# Altium footprint library Hello.PcbLib: 234 footprints (part 13 of 15)
Each footprint in its own frame and in the unit in brackets; x right, y up, seen from the top. Pads: shape width x height; smd on the part's side, far side on the other; paste and mask are expansions set on the pad; w line width, h text height; cw(c..) or ccw(c..) is an arc to the next point about the centre after c.
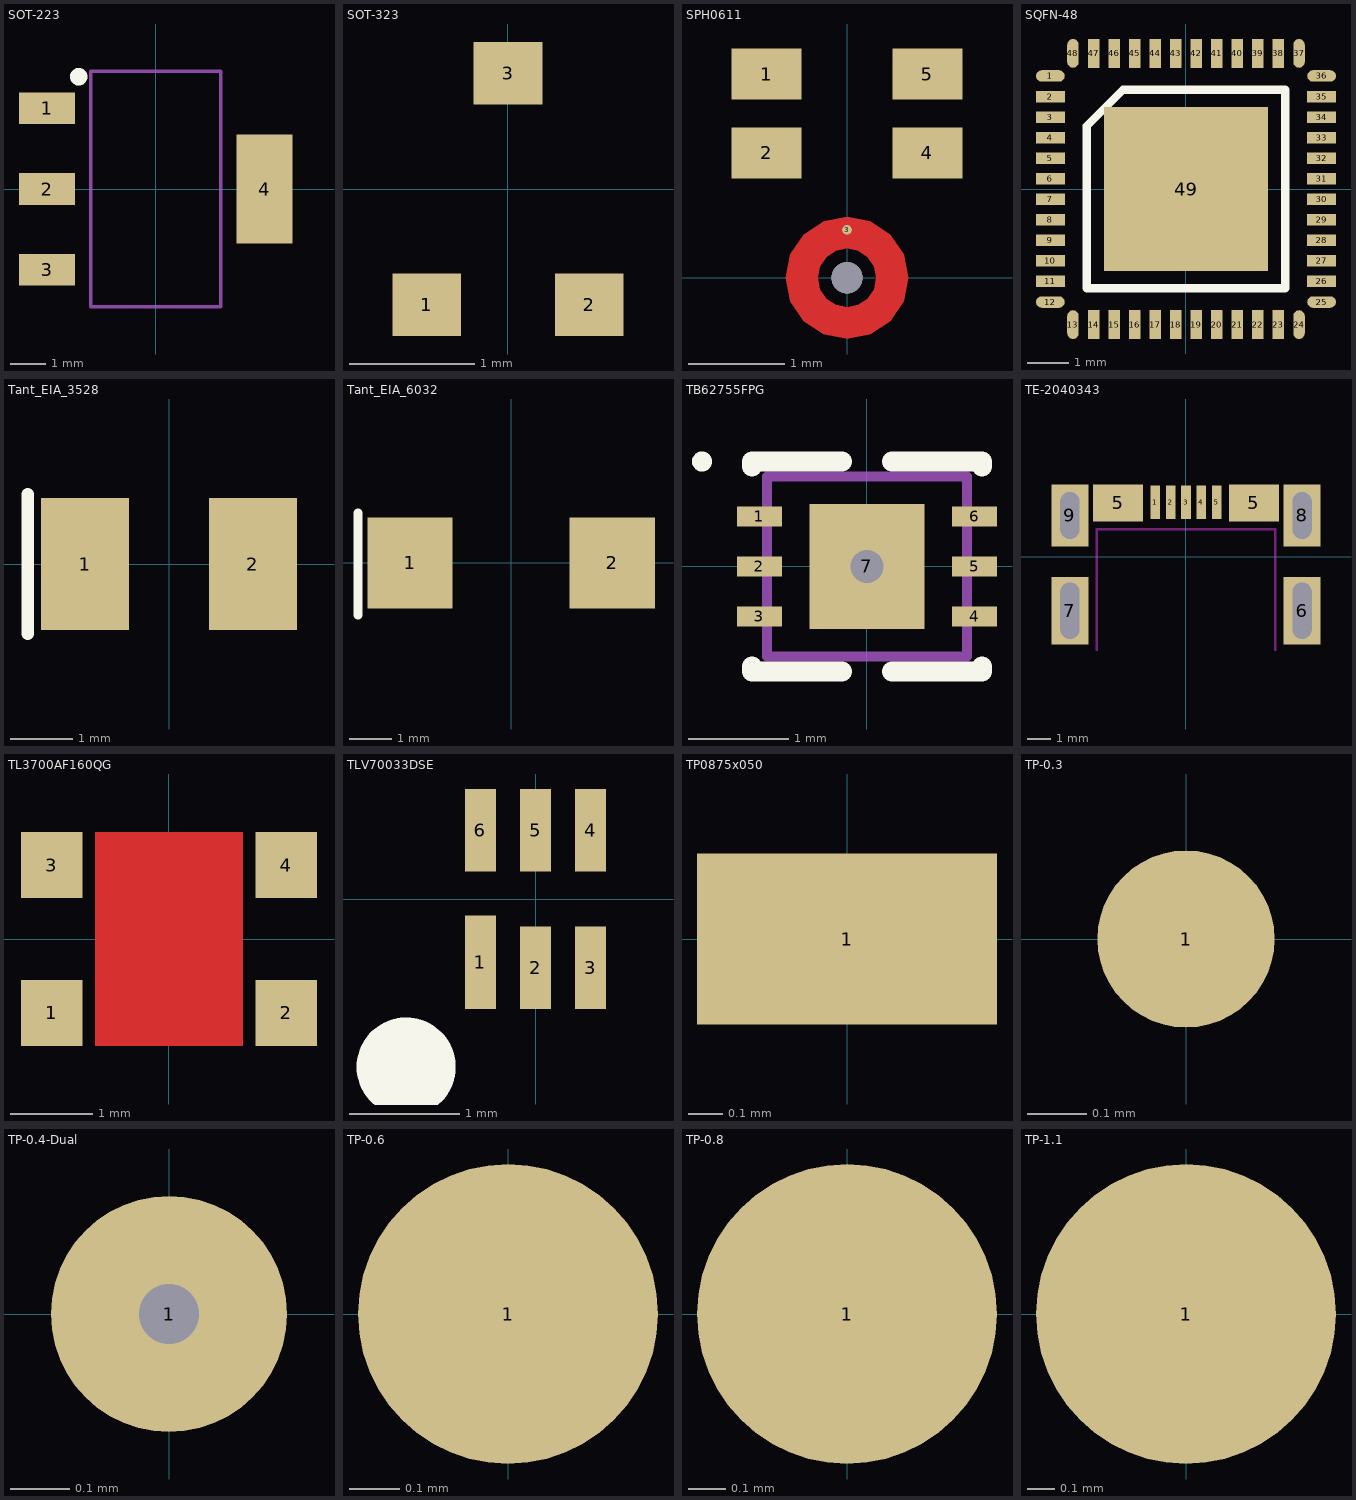
[diagram p12: the footprints below, top view; thin cyan lines are the x and y axes]

## SOT-223 [mm] "SOT223, 4-Leads, Body 6.50x7.00mm (avg), Pitch 2.30mm, IPC High Density"
height 1.8
pads (4):
  rect 1.6x0.9 smd: 1(-3.1,2.3) 2(-3.1,0) 3(-3.1,-2.3)
  rect 1.6x3.1 smd: 4(3.1,0)
Top Overlay:
  circle w0.25: c-2.2,3.2 r0.125
Mechanical 13:
  lines w0.1: -1.85,-3.35 1.85,-3.35 1.85,3.35 -1.85,3.35 -1.85,-3.35
3D body: height 1.8, standoff 0.02, extent -1.85,-3.35 1.85,3.35

## SOT-323 [mm]
pads (3):
  rect 0.55x0.5 smd paste-0.05: 1(-0.65,-0.925) 2(0.65,-0.925) 3(0,0.925)
3D body: height 1.1, standoff 0.1, extent -0.787,-0.937 0.788,0.838

## SPH0611 [mm] "Knowles SiSonic Microphone, 3.5x2.65mm"
height 1
pads (5):
  rect 0.73x0.53 smd paste-0.1: 1(-0.837,2.122) 2(-0.837,1.3) 4(0.837,1.3) 5(0.837,2.122)
  round 0.1 smd paste-1 mask+0: 3(0,0.5)
via 0,0 diameter 0.325 hole 0.325
Top Layer:
  region: -0.306,0 -0.283,0.117 -0.216,0.216 -0.117,0.283 0,0.306 0,0.637 -0.244,0.589 -0.451,0.451 -0.589,0.244 -0.637,0
  region: 0.306,0 0.283,0.117 0.216,0.216 0.117,0.283 0,0.306 0,0.637 0.244,0.589 0.451,0.451 0.589,0.244 0.637,0
  region: 0.306,0 0.283,-0.117 0.216,-0.216 0.117,-0.283 0,-0.306 0,-0.637 0.244,-0.589 0.451,-0.451 0.589,-0.244 0.637,0
  region: -0.306,0 -0.283,-0.117 -0.216,-0.216 -0.117,-0.283 0,-0.306 0,-0.637 -0.244,-0.589 -0.451,-0.451 -0.589,-0.244 -0.637,0
Top Solder:
  circle w0.3: c0,0 r0.08
Bottom Solder:
  circle w0.3: c0,0 r0.08
3D body: height 1, standoff 0, extent -1.35,-1.05 1.35,2.5

## SQFN-48 [mm]
height 1
pads (49):
  oval 0.7x0.28 smd: 1(-3.3,2.75) 12(-3.3,-2.75) 25(3.3,-2.75) 36(3.3,2.75)
  rect 0.7x0.28 smd: 2(-3.3,2.25) 3(-3.3,1.75) 4(-3.3,1.25) 5(-3.3,0.75) 6(-3.3,0.25) 7(-3.3,-0.25) 8(-3.3,-0.75) 9(-3.3,-1.25) 10(-3.3,-1.75) 11(-3.3,-2.25) 26(3.3,-2.25) 27(3.3,-1.75) 28(3.3,-1.25) 29(3.3,-0.75) 30(3.3,-0.25) 31(3.3,0.25) 32(3.3,0.75) 33(3.3,1.25) 34(3.3,1.75) 35(3.3,2.25)
  oval 0.28x0.7 smd: 13(-2.75,-3.3) 24(2.75,-3.3) 37(2.75,3.3) 48(-2.75,3.3)
  rect 0.28x0.7 smd: 14(-2.25,-3.3) 15(-1.75,-3.3) 16(-1.25,-3.3) 17(-0.75,-3.3) 18(-0.25,-3.3) 19(0.25,-3.3) 20(0.75,-3.3) 21(1.25,-3.3) 22(1.75,-3.3) 23(2.25,-3.3) 38(2.25,3.3) 39(1.75,3.3) 40(1.25,3.3) 41(0.75,3.3) 42(0.25,3.3) 43(-0.25,3.3) 44(-0.75,3.3) 45(-1.25,3.3) 46(-1.75,3.3) 47(-2.25,3.3)
  rect 4x4 smd: 49(0,0)
Top Overlay:
  lines w0.2: -2.415,-2.415 2.415,-2.415 2.415,2.415 -1.53,2.415 -2.415,1.53 -2.415,-2.415
3D body: height 1, standoff 0.05, extent -3.3,-3.299 3.329,3.309

## Tant_EIA_3528 [mm] "Tantalum Capacitor EIA 3528"
height 1.9
pads (2):
  rect 1.42x2.13 smd: 1(-1.35,0) 2(1.35,0)
Top Overlay:
  lines w0.2: -2.275,-1.125 -2.275,1.125
3D body: height 1.9, standoff 0.13, extent -1.587,-1.3 1.538,1.375

## Tant_EIA_6032 [mm] "Tantalum Capacitor EIA 6032"
height 2.5
pads (2):
  rect 1.99x2.13 smd: 1(-2.36,0) 2(2.36,0)
Top Overlay:
  lines w0.2: -3.575,-1.225 -3.575,1.175
3D body: height 2.5, standoff 0.13, extent -3,-1.3 2.9,1.4

## TB62755FPG [mm] "6-Pin QFN LED Driver"
height 0.6
pads (7):
  rect 0.45x0.2 smd: 1(-1.075,0.5) 2(-1.075,0) 3(-1.075,-0.5) 4(1.075,-0.5) 5(1.075,0) 6(1.075,0.5)
  rect 1.15x1.25 smd: 7(0,0)
via 0,0 diameter 0.66 hole 0.33
Top Overlay:
  circle w0.1: c-1.65,1.05 r0.05
  lines w0.2: -1.15,-1 -1.15,-1.05 -0.25,-1.05 ; -1.15,1 -1.15,1.05 -0.25,1.05 ; 0.25,-1.05 1.15,-1.05 1.15,-1 ; 0.25,1.05 1.15,1.05 1.15,1
Mechanical 13:
  lines w0.1: -1,-0.9 -1,0.9 1,0.9 1,-0.9 -1,-0.9
Mechanical 15:
  lines w0.1: -0.5,0 0.5,0 ; 0,-0.5 0,0.5
3D body: height 0.6, standoff 0.01, extent -1,-0.9 1,0.9

## TE-2040343 [mm] "TE micro USB connector, board cut-out mount"
height 2.48
pads (11):
  rect 0.4x1.4 smd: 1(-1.3,2.275) 2(-0.65,2.275) 3(0,2.275) 4(0.65,2.275) 5(1.3,2.275)
  rect 2.1x1.55 smd: 5(-2.85,2.25) 5(2.85,2.25)
  rect 1.56x2.85 hole 0.8 slot 2.37 at 90 deg paste-0.05: 6(4.875,-2.275) 7(-4.875,-2.275)
  rect 1.56x2.6 hole 0.8 slot 1.97 at 90 deg paste-0.05: 8(4.875,1.725) 9(-4.875,1.725)
Keep-Out Layer:
  lines w0.1: -3.75,-3.925 -3.75,1.15 3.75,1.15 3.75,-3.925
Multi-Layer:
  pour cut-out: -4.475,1.9 4.475,1.9 4.475,-3.925 -4.475,-3.925
3D body: height 1.5, standoff 0, extent -5,-4.225 5,2.775

## TL3700AF160QG [mm] "custom footprint for TL3700 pushbuttons"
height 0.65
pads (4):
  rect 0.75x0.8 smd: 1(-1.425,-0.9) 2(1.425,-0.9) 3(-1.425,0.9) 4(1.425,0.9)
Top Layer:
  pour cut-out: -0.9,1.3 -0.9,-1.3 0.9,-1.3 0.9,1.3
3D body: height 0.65, standoff 0.35, extent -1.675,-1.3 1.675,1.3

## TLV70033DSE [mm] "SON-6 footprint for TLV70033"
pads (6):
  rect 0.28x0.85 smd: 1(-0.5,-0.575)
  rect 0.28x0.75 smd: 2(0,-0.625) 3(0.5,-0.625) 4(0.5,0.625) 5(0,0.625) 6(-0.5,0.625)
Top Overlay:
  circle w0.5: c-1.175,-1.525 r0.2
3D body: height 0.8, standoff 0.08, extent -0.75,-1 0.75,1

## TP0875x050 [mm] "Test Pad 0.875x0.50mm"
pads (1):
  rect 0.875x0.5 smd: 1(0,0)

## TP-0.3 [mm] "0.3mm radius Test Point"
pads (1):
  round 0.3 smd paste-1: 1(0,0)

## TP-0.4-Dual [mm] "Dual sided Test Point 0.4mm"
pads (1):
  round 0.4 hole 0.102 paste-1 mask+0.1: 1(0,0)

## TP-0.6 [mm] "6mm test point"
pads (1):
  round 0.6 smd paste-1: 1(0,0)

## TP-0.8 [mm] "0.8mm test point"
pads (1):
  round 0.8 smd paste-1: 1(0,0)

## TP-1.1 [mm] "1.1mm TestPoint"
pads (1):
  round 1.1 smd paste-1: 1(0,0)